# Altium schematic symbol library RES_VAR_2.SchLib: 1 symbol
Pins are listed as number, name and electrical type; pins without a type are passive.

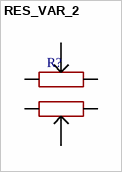
[diagram p0: symbol RES_VAR_2]

## RES_VAR_2
designator R?
footprint RES_VAR_2
pins: 1, 2, 3, 4, 5, 6